# Altium footprint library 1930.PcbLib: 1 footprints
Each footprint in its own frame and in the unit in brackets; x right, y up, seen from the top. Pads: shape width x height; smd on the part's side, far side on the other; paste and mask are expansions set on the pad; w line width, h text height; cw(c..) or ccw(c..) is an arc to the next point about the centre after c.
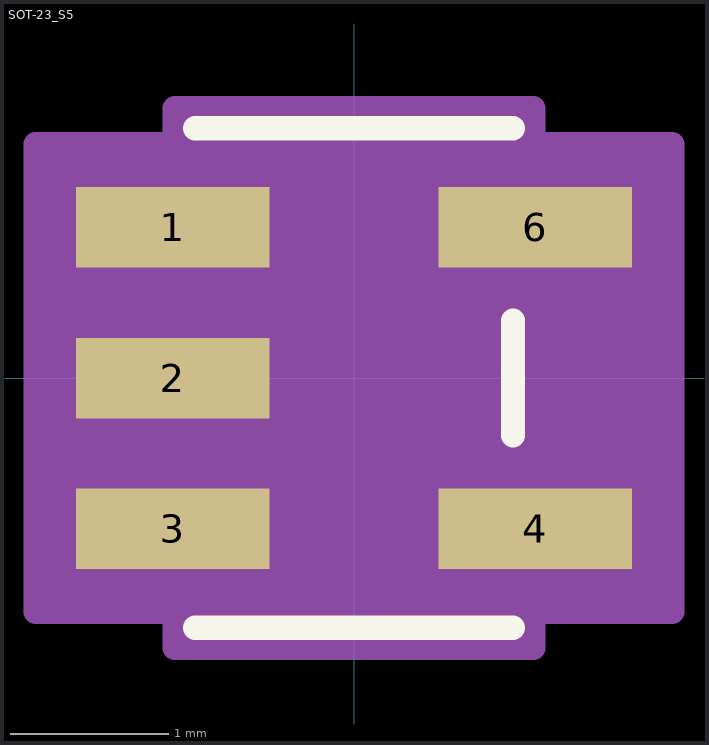
[diagram p0: the footprint, top view; thin cyan lines are the x and y axes]

## SOT-23_S5 [mil]
pads (5):
  rect 48x20 smd mask+0: 1(-45,37.4) 2(-45,0) 3(-45,-37.4) 4(45,-37.4) 6(45,37.4)
Top Overlay:
  lines w6: -39.5,-62 39.5,-62 ; -39.5,62 39.5,62 ; 39.5,-14.3 39.5,14.3
Mechanical 13:
  lines w0: -12,57 ccw(c0,57) 12,57
Mechanical 15:
  region: -44.5,-58.1 -79,-58.1 -79,58.1 -44.5,58.1 -44.5,67 44.5,67 44.5,58.1 79,58.1 79,-58.1 44.5,-58.1 44.5,-67 -44.5,-67
  lines w6: -79,-58.1 -44.5,-58.1 -44.5,-67 44.5,-67 44.5,-58.1 79,-58.1 79,58.1 44.5,58.1 44.5,67 -44.5,67 -44.5,58.1 -79,58.1 -79,-58.1
3D body: height 10, standoff 0, extent 0,0 10,10